# Altium schematic symbol library ISO1050DUB.SchLib: 1 symbol
Pins are listed as number, name and electrical type; pins without a type are passive.

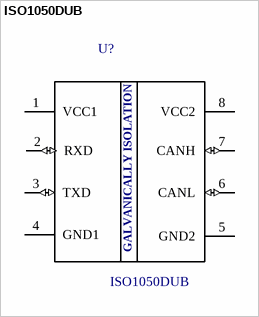
[diagram p0: symbol ISO1050DUB]

## ISO1050DUB
designator U?
Isolated 5-V CAN Transceivers 8-SOP -55 to 105; MF: Texas Instruments; Price: None; Package: SOP-8 Texas Instruments; Availability: Unavailable; MP: ISO1050DUB; SnapEDA_Link: https://www.snapeda.com/parts/ISO1050DUB/Texas%20Instruments/view-part/?ref=snap; Value: *
footprint SOP254P1040X485-8N
pins: 1 VCC1 (power), 2 RXD (io), 3 TXD (io), 4 GND1 (power), 5 GND2 (power), 6 CANL (io), 7 CANH (io), 8 VCC2 (power)
text: GALVANICALLY ISOLATION